# Altium schematic symbol library Motors Brushed.SchLib: 2 symbols
Pins are listed as number, name and electrical type; pins without a type are passive.

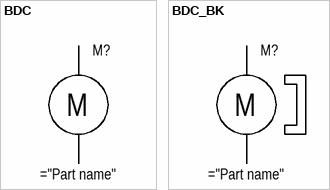
[diagram p0: symbols BDC to BDC_BK]

## BDC
designator M?
pins: A, B
text: M

## BDC_BK
designator M?
pins: A, B
text: M